# EAGLE library part LC4128ZE_XXTN100 (library lattice_ispMACH4000ZE)
ispMACH 4128ZE TQFP100 Lattice Semiconductor Corporation - ispMACH 4000ZE Ultra Low Power, Low Cost CPLD Family Generated using Lattice BSDL models: http://www.latticesemi.com/dynamic/index.cfm?fuseaction=view_documents&document_type=36&sloc=01-01-02-01&source=sidebar
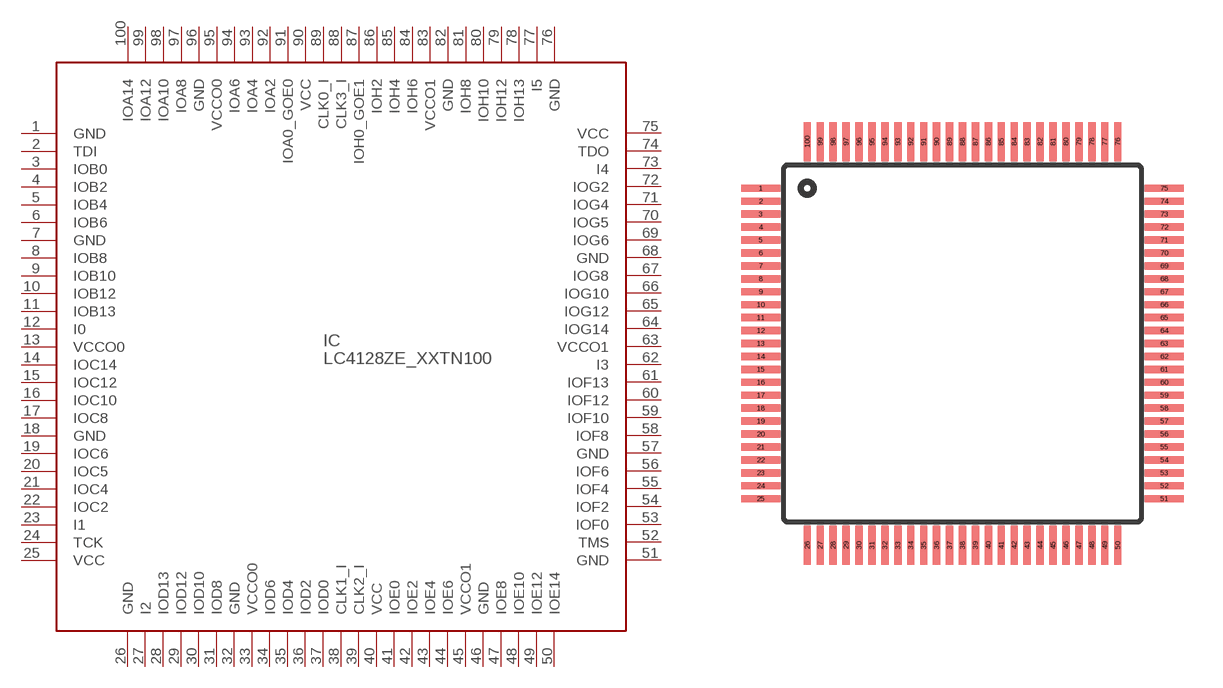
[diagram p3: symbol with the pads of TQFP100; footprint TQFP100]

Designator prefix IC

## LC4128ZE_XXTN100  [TQFP100]
1  GND  pwr
2  TDI  in
3  IOB0
4  IOB2
5  IOB4
6  IOB6
7  GND  pwr
8  IOB8
9  IOB10
10  IOB12
11  IOB13
12  I0
13  VCCO0  pwr
14  IOC14
15  IOC12
16  IOC10
17  IOC8
18  GND  pwr
19  IOC6
20  IOC5
21  IOC4
22  IOC2
23  I1
24  TCK  in
25  VCC  pwr
26  GND  pwr
27  I2
28  IOD13
29  IOD12
30  IOD10
31  IOD8
32  GND  pwr
33  VCCO0  pwr
34  IOD6
35  IOD4
36  IOD2
37  IOD0
38  CLK1_I  in
39  CLK2_I  in
40  VCC  pwr
41  IOE0
42  IOE2
43  IOE4
44  IOE6
45  VCCO1  pwr
46  GND  pwr
47  IOE8
48  IOE10
49  IOE12
50  IOE14
51  GND  pwr
52  TMS  in
53  IOF0
54  IOF2
55  IOF4
56  IOF6
57  GND  pwr
58  IOF8
59  IOF10
60  IOF12
61  IOF13
62  I3
63  VCCO1  pwr
64  IOG14
65  IOG12
66  IOG10
67  IOG8
68  GND  pwr
69  IOG6
70  IOG5
71  IOG4
72  IOG2
73  I4
74  TDO  out
75  VCC  pwr
76  GND  pwr
77  I5
78  IOH13
79  IOH12
80  IOH10
81  IOH8
82  GND  pwr
83  VCCO1  pwr
84  IOH6
85  IOH4
86  IOH2
87  IOH0_GOE1
88  CLK3_I  in
89  CLK0_I  in
90  VCC  pwr
91  IOA0_GOE0
92  IOA2
93  IOA4
94  IOA6
95  VCCO0  pwr
96  GND  pwr
97  IOA8
98  IOA10
99  IOA12
100  IOA14

## Footprint TQFP100 (pad centres in mm)
TQFP - 100 http://www.latticesemi.com/lit/docs/package/pkg.pdf
smd 1.5 x 0.285: 1 -7.8,6; 2 -7.8,5.5; 3 -7.8,5; 4 -7.8,4.5; 5 -7.8,4; 6 -7.8,3.5; 7 -7.8,3; 8 -7.8,2.5; 9 -7.8,2; 10 -7.8,1.5; 11 -7.8,1; 12 -7.8,0.5; 13 -7.8,0; 14 -7.8,-0.5; 15 -7.8,-1; 16 -7.8,-1.5; 17 -7.8,-2; 18 -7.8,-2.5; 19 -7.8,-3; 20 -7.8,-3.5; 21 -7.8,-4; 22 -7.8,-4.5; 23 -7.8,-5; 24 -7.8,-5.5; 25 -7.8,-6; 51 7.8,-6; 52 7.8,-5.5; 53 7.8,-5; 54 7.8,-4.5; 55 7.8,-4; 56 7.8,-3.5; 57 7.8,-3; 58 7.8,-2.5; 59 7.8,-2; 60 7.8,-1.5; 61 7.8,-1; 62 7.8,-0.5; 63 7.8,0; 64 7.8,0.5; 65 7.8,1; 66 7.8,1.5; 67 7.8,2; 68 7.8,2.5; 69 7.8,3; 70 7.8,3.5; 71 7.8,4; 72 7.8,4.5; 73 7.8,5; 74 7.8,5.5; 75 7.8,6
smd 0.285 x 1.5: 26 -6,-7.8; 27 -5.5,-7.8; 28 -5,-7.8; 29 -4.5,-7.8; 30 -4,-7.8; 31 -3.5,-7.8; 32 -3,-7.8; 33 -2.5,-7.8; 34 -2,-7.8; 35 -1.5,-7.8; 36 -1,-7.8; 37 -0.5,-7.8; 38 0,-7.8; 39 0.5,-7.8; 40 1,-7.8; 41 1.5,-7.8; 42 2,-7.8; 43 2.5,-7.8; 44 3,-7.8; 45 3.5,-7.8; 46 4,-7.8; 47 4.5,-7.8; 48 5,-7.8; 49 5.5,-7.8; 50 6,-7.8; 76 6,7.8; 77 5.5,7.8; 78 5,7.8; 79 4.5,7.8; 80 4,7.8; 81 3.5,7.8; 82 3,7.8; 83 2.5,7.8; 84 2,7.8; 85 1.5,7.8; 86 1,7.8; 87 0.5,7.8; 88 0,7.8; 89 -0.5,7.8; 90 -1,7.8; 91 -1.5,7.8; 92 -2,7.8; 93 -2.5,7.8; 94 -3,7.8; 95 -3.5,7.8; 96 -4,7.8; 97 -4.5,7.8; 98 -5,7.8; 99 -5.5,7.8; 100 -6,7.8